# EAGLE library part LMV358 (library HelaTronix - IC Special Functions)
Low-Voltage Rail-to-Rail Output Dual Operational Amplifiers
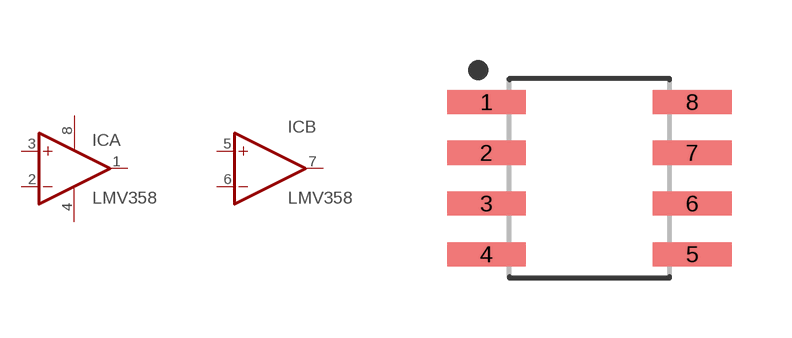
[diagram p15: symbol with the pads of SOIC-8-D; footprint SOIC-8-D]

Designator prefix IC; gates A=OPAMP+- B=OPAMP_NO_PO

## LMV358 (LCSC#: C63813; LCSC_LINK: https://lcsc.com/product-detail/Operational-Amplifier_Texas-Instruments-LMV358IDR_C63813.html; MANUFACTURER: Texas Instruments; MFR#: LMV358IDR)  [SOIC-8-D]
1  A:OUT  out
2  A:-IN  in
3  A:+IN  in
4  A:V-  pwr
5  B:+IN  in
6  B:-IN  in
7  B:OUT  out
8  A:V+  pwr

## Footprint SOIC-8-D (pad centres in mm)
8-SOIC, 1.27 mm pitch, 6.20 mm span, 4.90 X 3.90 X 1.75 mm body 8-pin SOIC package with 1.27 mm pitch, 6.20 mm span with body size 4.90 X 3.90 X 1.75 mm
smd 1.968 x 0.602: 1 -2.573,1.905; 2 -2.573,0.635; 3 -2.573,-0.635; 4 -2.573,-1.905; 5 2.573,-1.905; 6 2.573,-0.635; 7 2.573,0.635; 8 2.573,1.905